# Altium schematic symbol library AstraSOM-261x-sch.SchLib: 1 symbol
Pins are listed as number, name and electrical type; pins without a type are passive.

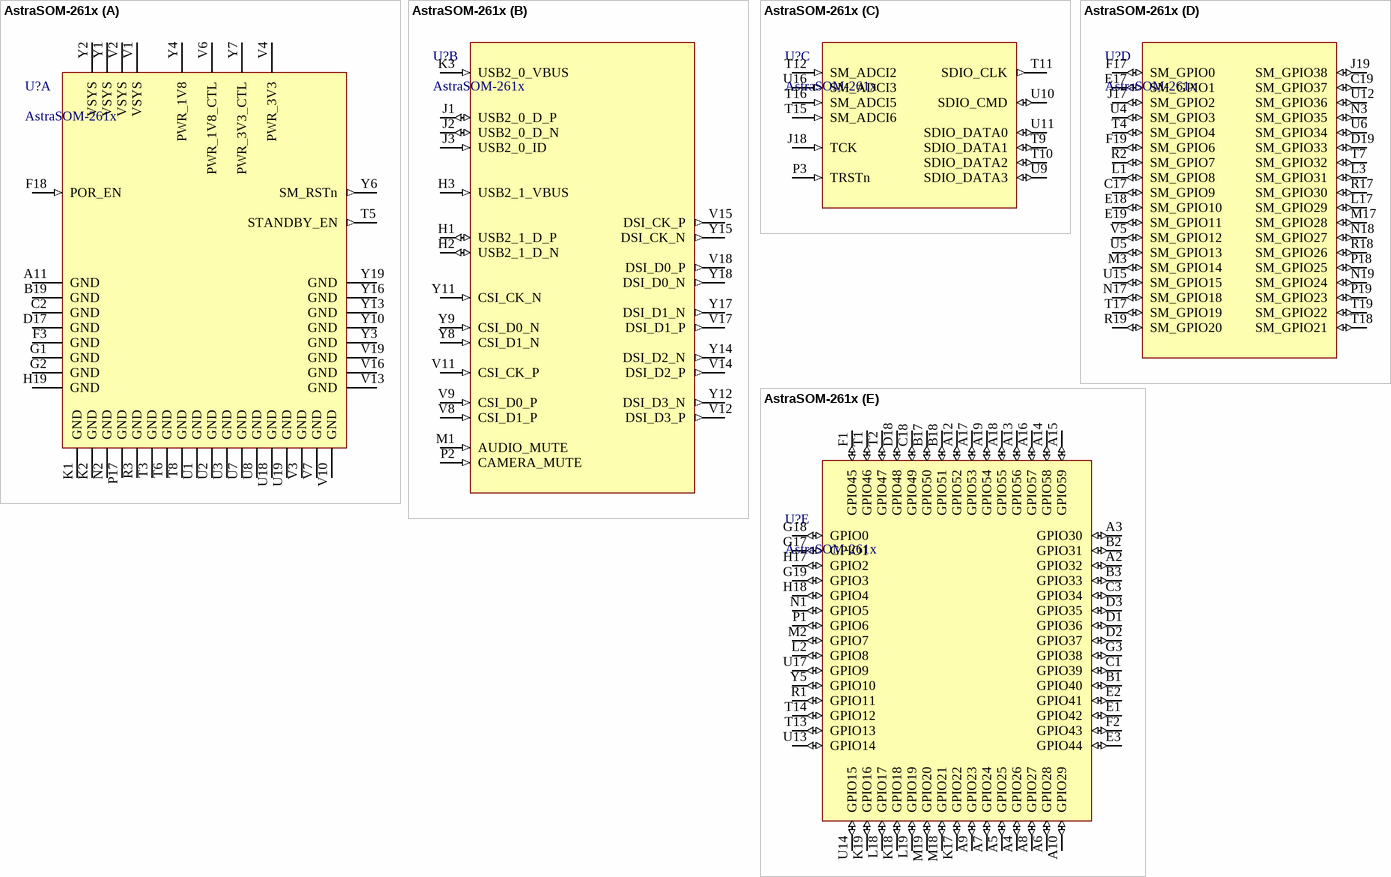
[diagram p0: symbol AstraSOM-261x]

## AstraSOM-261x
designator U?
AstraSOM-261x Edge AI System-on-Module (SoM) based on MediaTek Genio 260/261. 25mm x 25mm LGA178 module integrating CPU, memory, storage, power management, and AI acceleration.; Manufacturer: Grinn Global; Part Number: AstraSOM-261x
footprint AstraSOM-261x (AstraSOM-261x 25mm x 25mm LGA178 System-on-Module footprint. Land pattern for Grinn AstraSOM-261x Edge AI SoM. Verify mechanical dimensions and assembly requirements with latest manufacturer documentation.)
part A pins: A11 GND (power), B19 GND (power), C2 GND (power), D17 GND (power), F3 GND (power), F18 POR_EN (in), G1 GND (power), G2 GND (power), H19 GND (power), K1 GND (power), K2 GND (power), N2 GND (power), P17 GND (power), R3 GND (power), T3 GND (power), T5 STANDBY_EN (out), T6 GND (power), T8 GND (power), U1 GND (power), U2 GND (power), U3 GND (power), U7 GND (power), U8 GND (power), U18 GND (power), U19 GND (power), V1 VSYS (power), V2 VSYS (power), V3 GND (power), V4 PWR_3V3 (power), V6 PWR_1V8_CTL (power), V7 GND (power), V10 GND (power), V13 GND (power), V16 GND (power), V19 GND (power), Y1 VSYS (power), Y2 VSYS (power), Y3 GND (power), Y4 PWR_1V8 (power), Y6 SM_RSTn (out), Y7 PWR_3V3_CTL (power), Y10 GND (power), Y13 GND (power), Y16 GND (power), Y19 GND (power)
part B pins: H1 USB2_1_D_P (io), H2 USB2_1_D_N (io), H3 USB2_1_VBUS (in), J1 USB2_0_D_P (io), J2 USB2_0_D_N (io), J3 USB2_0_ID (in), K3 USB2_0_VBUS (in), M1 AUDIO_MUTE (in), P2 CAMERA_MUTE (in), V8 CSI_D1_P (in), V9 CSI_D0_P (in), V11 CSI_CK_P (in), V12 DSI_D3_P (out), V14 DSI_D2_P (out), V15 DSI_CK_P (out), V17 DSI_D1_P (out), V18 DSI_D0_P (out), Y8 CSI_D1_N (in), Y9 CSI_D0_N (in), Y11 CSI_CK_N (in), Y12 DSI_D3_N (out), Y14 DSI_D2_N (out), Y15 DSI_CK_N (out), Y17 DSI_D1_N (out), Y18 DSI_D0_N (out)
part C pins: J18 TCK (in), P3 TRSTn (in), T9 SDIO_DATA1 (io), T10 SDIO_DATA2 (io), T11 SDIO_CLK (out), T12 SM_ADCI2 (in), T15 SM_ADCI6 (in), T16 SM_ADCI5 (in), U9 SDIO_DATA3 (io), U10 SDIO_CMD (io), U11 SDIO_DATA0 (io), U16 SM_ADCI3 (in)
part D pins: C17 SM_GPIO9 (io), C19 SM_GPIO37 (io), D19 SM_GPIO33 (io), E17 SM_GPIO1 (io), E18 SM_GPIO10 (io), E19 SM_GPIO11 (io), F17 SM_GPIO0 (io), F19 SM_GPIO6 (io), J17 SM_GPIO2 (io), J19 SM_GPIO38 (io), L1 SM_GPIO8 (io), L3 SM_GPIO31 (io), L17 SM_GPIO29 (io), M3 SM_GPIO14 (io), M17 SM_GPIO28 (io), N3 SM_GPIO35 (io), N17 SM_GPIO18 (io), N18 SM_GPIO27 (io), N19 SM_GPIO24 (io), P18 SM_GPIO25 (io), P19 SM_GPIO23 (io), R2 SM_GPIO7 (io), R17 SM_GPIO30 (io), R18 SM_GPIO26 (io), R19 SM_GPIO20 (io), T4 SM_GPIO4 (io), T7 SM_GPIO32 (io), T17 SM_GPIO19 (io), T18 SM_GPIO21 (io), T19 SM_GPIO22 (io), U4 SM_GPIO3 (io), U5 SM_GPIO13 (io), U6 SM_GPIO34 (io), U12 SM_GPIO36 (io), U15 SM_GPIO15 (io), V5 SM_GPIO12 (io)
part E pins: A2 GPIO32 (io), A3 GPIO30 (io), A4 GPIO26 (io), A5 GPIO25 (io), A6 GPIO28 (io), A7 GPIO24 (io), A8 GPIO27 (io), A9 GPIO23 (io), A10 GPIO29 (io), A12 GPIO52 (io), A13 GPIO56 (io), A14 GPIO58 (io), A15 GPIO59 (io), A16 GPIO57 (io), A17 GPIO53 (io), A18 GPIO55 (io), A19 GPIO54 (io), B1 GPIO40 (io), B2 GPIO31 (io), B3 GPIO33 (io), B17 GPIO50 (io), B18 GPIO51 (io), C1 GPIO39 (io), C3 GPIO34 (io), C18 GPIO49 (io), D1 GPIO36 (io), D2 GPIO37 (io), D3 GPIO35 (io), D18 GPIO48 (io), E1 GPIO42 (io), E2 GPIO41 (io), E3 GPIO44 (io), F1 GPIO45 (io), F2 GPIO43 (io), G3 GPIO38 (io), G17 GPIO1 (io), G18 GPIO0 (io), G19 GPIO3 (io), H17 GPIO2 (io), H18 GPIO4 (io), K17 GPIO22 (io), K18 GPIO18 (io), K19 GPIO16 (io), L2 GPIO8 (io), L18 GPIO17 (io), L19 GPIO19 (io), M2 GPIO7 (io), M18 GPIO21 (io), M19 GPIO20 (io), N1 GPIO5 (io), P1 GPIO6 (io), R1 GPIO11 (io), T1 GPIO46 (io), T2 GPIO47 (io), T13 GPIO13 (io), T14 GPIO12 (io), U13 GPIO14 (io), U14 GPIO15 (io), U17 GPIO9 (io), Y5 GPIO10 (io)